# Altium footprint library eagle-ltspice.PCBLIB: 60 footprints (part 1 of 4)
Each footprint in its own frame and in the unit in brackets; x right, y up, seen from the top. Pads: shape width x height; smd on the part's side, far side on the other; paste and mask are expansions set on the pad; w line width, h text height; cw(c..) or ccw(c..) is an arc to the next point about the centre after c.
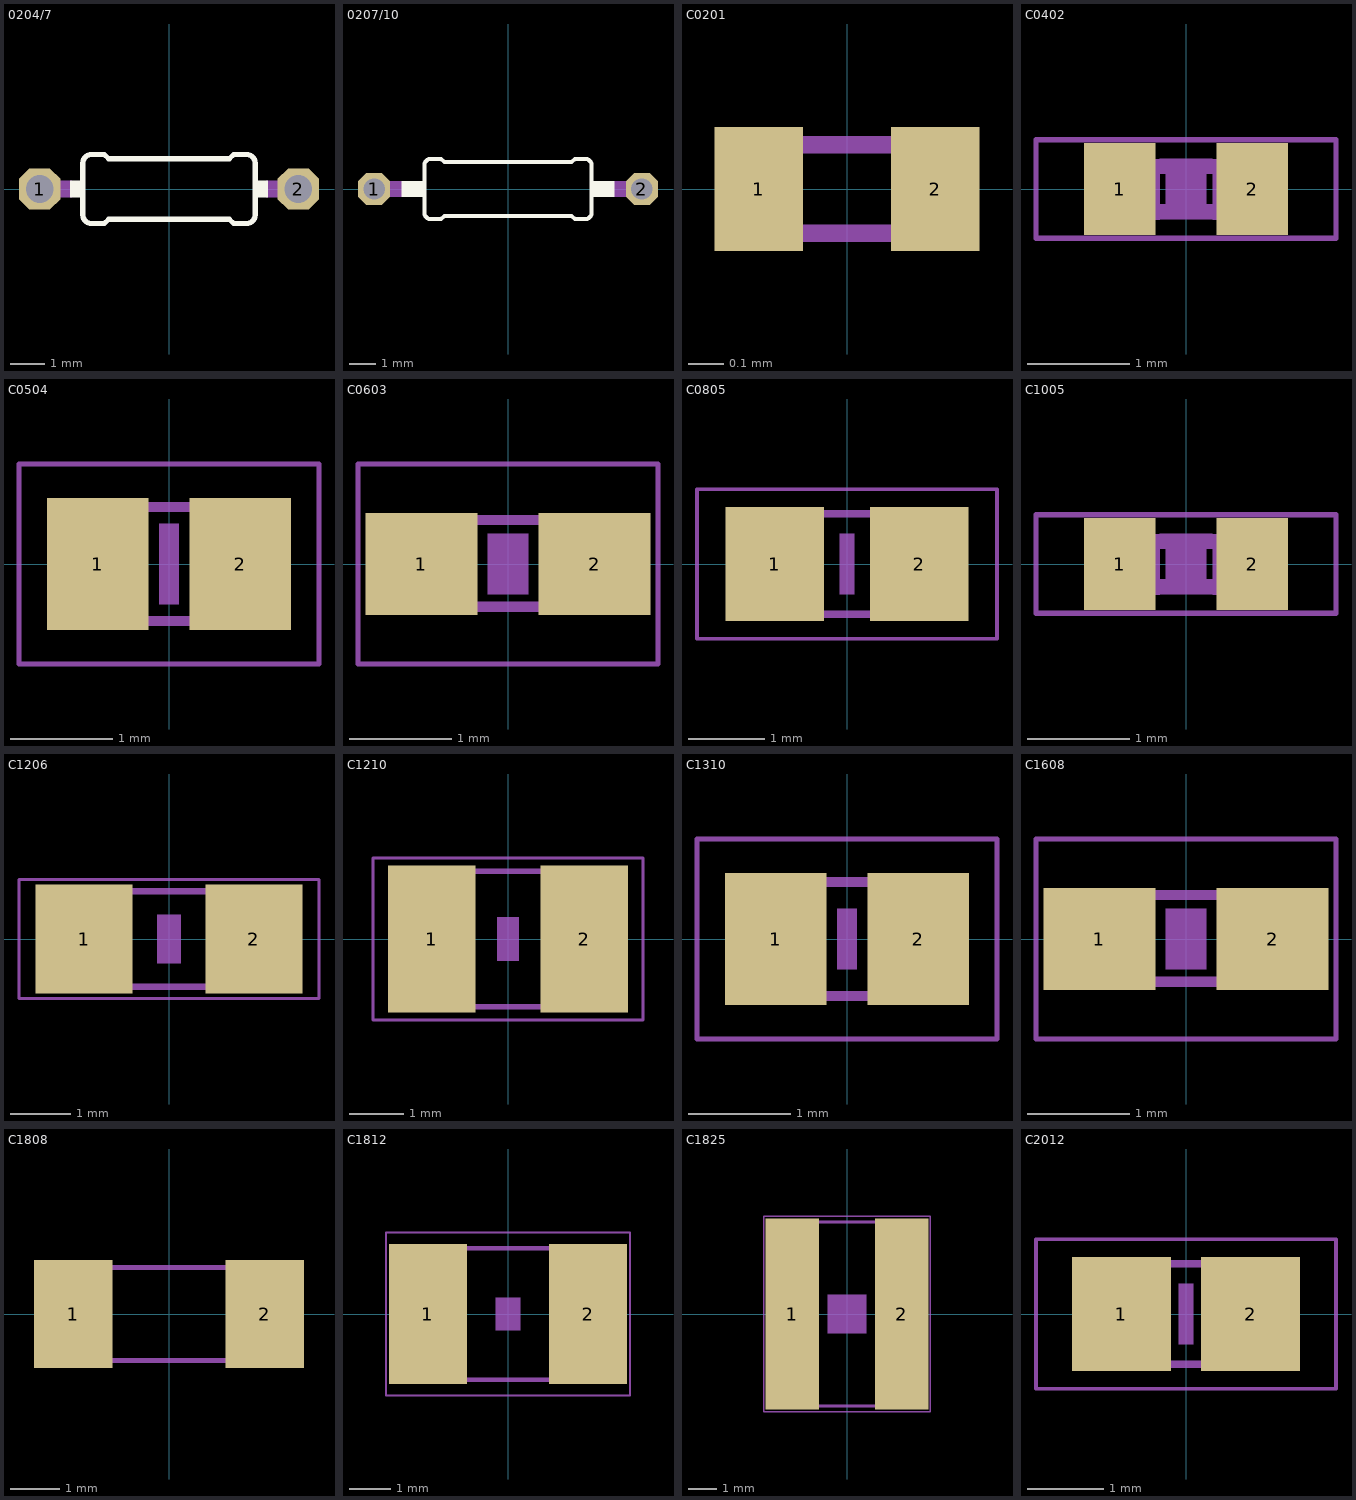
[diagram p0: the footprints below, top view; thin cyan lines are the x and y axes]

## 0204/7 [mil]
pads (2):
  oct 48x48 hole 32: 1(-150,0) 2(150,0)
Top Overlay:
  rectangle: 100,-10 115,10
  rectangle: -115,-10 -100,10
  lines w6: -100,-30 ccw(c-90,-30) -90,-40 -75,-40 -70,-35 70,-35 75,-40 90,-40 ccw(c90,-30) 100,-30 100,30 ccw(c90,30) 90,40 75,40 70,35 -70,35 -75,40 -90,40 ccw(c-90,30) -100,30 -100,-30
Mechanical 16:
  lines w20: -150,0 -115,0 ; 115,0 150,0

## 0207/10 [mil]
pads (2):
  oct 48x48 hole 32: 1(-200,0) 2(200,0)
Top Overlay:
  rectangle: 125,-12 159,12
  rectangle: -159,-12 -125,12
  lines w6: -125,-35 ccw(c-115,-35) -115,-45 -100,-45 -95,-40 95,-40 100,-45 115,-45 ccw(c115,-35) 125,-35 125,35 ccw(c115,35) 115,45 100,45 95,40 -95,40 -100,45 -115,45 ccw(c-115,35) -125,35 -125,-35
Mechanical 16:
  lines w24: -200,0 -160,0 ; 160,0 200,0

## C0201 [mm]
pads (2):
  rect 0.25x0.35 smd: 1(-0.25,0) 2(0.25,0)
Mechanical 16:
  rectangle: -0.3,-0.15 -0.15,0.15
  rectangle: 0.15,-0.15 0.3,0.15
  rectangle: -0.15,0.1 0.15,0.15
  rectangle: -0.15,-0.15 0.15,-0.1

## C0402 [mm]
pads (2):
  rect 0.7x0.9 smd: 1(-0.65,0) 2(0.65,0)
Mechanical 6:
  rectangle: -0.2,-0.3 0.2,0.3
Mechanical 16:
  rectangle: -0.554,-0.305 -0.254,0.295
  rectangle: 0.259,-0.305 0.559,0.295
  lines w0.152: -0.245,-0.224 0.245,-0.224 ; -0.245,0.224 0.245,0.224
Mechanical 27:
  lines w0.051: -1.473,-0.483 1.473,-0.483 1.473,0.483 -1.473,0.483 -1.473,-0.483

## C0504 [mm]
pads (2):
  rect 1x1.3 smd: 1(-0.7,0) 2(0.7,0)
Mechanical 6:
  rectangle: -0.1,-0.4 0.1,0.4
Mechanical 16:
  rectangle: -0.66,-0.622 -0.28,0.628
  rectangle: 0.279,-0.622 0.659,0.628
  lines w0.102: -0.294,-0.559 0.294,-0.559 ; -0.294,0.559 0.294,0.559
Mechanical 27:
  lines w0.051: -1.473,-0.983 1.473,-0.983 1.473,0.983 -1.473,0.983 -1.473,-0.983

## C0603 [mm]
pads (2):
  rect 1.1x1 smd: 1(-0.85,0) 2(0.85,0)
Mechanical 6:
  rectangle: -0.2,-0.3 0.2,0.3
Mechanical 16:
  rectangle: -0.838,-0.47 -0.338,0.48
  rectangle: 0.33,-0.47 0.83,0.48
  lines w0.102: -0.356,-0.419 0.356,-0.419 ; -0.356,0.432 0.356,0.432
Mechanical 27:
  lines w0.051: -1.473,-0.983 1.473,-0.983 1.473,0.983 -1.473,0.983 -1.473,-0.983

## C0805 [mm]
pads (2):
  rect 1.3x1.5 smd: 1(-0.95,0) 2(0.95,0)
Mechanical 6:
  rectangle: -0.1,-0.4 0.1,0.4
Mechanical 16:
  rectangle: -1.092,-0.724 -0.342,0.726
  rectangle: 0.356,-0.724 1.106,0.726
  lines w0.102: -0.381,0.66 0.381,0.66 ; -0.356,-0.66 0.381,-0.66
Mechanical 27:
  lines w0.051: -1.973,-0.983 1.973,-0.983 1.973,0.983 -1.973,0.983 -1.973,-0.983

## C1005 [mm]
pads (2):
  rect 0.7x0.9 smd: 1(-0.65,0) 2(0.65,0)
Mechanical 6:
  rectangle: -0.2,-0.3 0.2,0.3
Mechanical 16:
  rectangle: -0.554,-0.305 -0.254,0.295
  rectangle: 0.259,-0.305 0.559,0.295
  lines w0.152: -0.245,-0.224 0.245,-0.224 ; -0.245,0.224 0.245,0.224
Mechanical 27:
  lines w0.051: -1.473,-0.483 1.473,-0.483 1.473,0.483 -1.473,0.483 -1.473,-0.483

## C1206 [mm]
pads (2):
  rect 1.6x1.8 smd: 1(-1.4,0) 2(1.4,0)
Mechanical 6:
  rectangle: -0.2,-0.4 0.2,0.4
Mechanical 16:
  rectangle: -1.702,-0.851 -0.952,0.849
  rectangle: 0.952,-0.849 1.702,0.851
  lines w0.102: -0.965,-0.787 0.965,-0.787 ; -0.965,0.787 0.965,0.787
Mechanical 27:
  lines w0.051: -2.473,-0.983 2.473,-0.983 2.473,0.983 -2.473,0.983 -2.473,-0.983

## C1210 [mm]
pads (2):
  rect 1.6x2.7 smd: 1(-1.4,0) 2(1.4,0)
Mechanical 6:
  rectangle: -0.2,-0.4 0.2,0.4
Mechanical 16:
  rectangle: -1.702,-1.295 -0.952,1.305
  rectangle: 0.952,-1.305 1.702,1.295
  lines w0.102: -0.965,-1.245 0.965,-1.245 ; -0.965,1.245 0.965,1.245
Mechanical 27:
  lines w0.051: -2.473,-1.483 2.473,-1.483 2.473,1.483 -2.473,1.483 -2.473,-1.483

## C1310 [mm]
pads (2):
  rect 1x1.3 smd: 1(-0.7,0) 2(0.7,0)
Mechanical 6:
  rectangle: -0.1,-0.3 0.1,0.3
Mechanical 16:
  rectangle: -0.66,-0.622 -0.28,0.628
  rectangle: 0.279,-0.622 0.659,0.628
  lines w0.102: -0.294,-0.559 0.294,-0.559 ; -0.294,0.559 0.294,0.559
Mechanical 27:
  lines w0.051: -1.473,-0.983 1.473,-0.983 1.473,0.983 -1.473,0.983 -1.473,-0.983

## C1608 [mm]
pads (2):
  rect 1.1x1 smd: 1(-0.85,0) 2(0.85,0)
Mechanical 6:
  rectangle: -0.2,-0.3 0.2,0.3
Mechanical 16:
  rectangle: -0.838,-0.47 -0.338,0.48
  rectangle: 0.33,-0.47 0.83,0.48
  lines w0.102: -0.356,-0.419 0.356,-0.419 ; -0.356,0.432 0.356,0.432
Mechanical 27:
  lines w0.051: -1.473,-0.983 1.473,-0.983 1.473,0.983 -1.473,0.983 -1.473,-0.983

## C1808 [mm]
pads (2):
  rect 1.6x2.2 smd: 1(-1.95,0) 2(1.95,0)
Mechanical 16:
  rectangle: -2.275,-1.015 -1.225,1.015
  rectangle: 1.225,-1.015 2.275,1.015
  lines w0.102: -1.473,0.95 1.473,0.95 ; -1.448,-0.95 1.473,-0.95

## C1812 [mm]
pads (2):
  rect 1.9x3.4 smd: 1(-1.95,0) 2(1.95,0)
Mechanical 6:
  rectangle: -0.3,-0.4 0.3,0.4
Mechanical 16:
  rectangle: -2.388,-1.651 -1.438,1.649
  rectangle: 1.448,-1.651 2.398,1.649
  lines w0.102: -1.473,1.6 1.473,1.6 ; -1.448,-1.6 1.473,-1.6
Mechanical 27:
  lines w0.051: -2.973,-1.983 2.973,-1.983 2.973,1.983 -2.973,1.983 -2.973,-1.983

## C1825 [mm]
pads (2):
  rect 1.9x6.8 smd: 1(-1.95,0) 2(1.95,0)
Mechanical 6:
  rectangle: -0.7,-0.7 0.7,0.7
Mechanical 16:
  rectangle: -2.413,-3.353 -1.463,3.347
  rectangle: 1.448,-3.353 2.398,3.347
  lines w0.102: -1.499,3.277 1.473,3.277 ; -1.473,-3.277 1.499,-3.277
Mechanical 27:
  lines w0.051: -2.973,-3.483 2.973,-3.483 2.973,3.483 -2.973,3.483 -2.973,-3.483

## C2012 [mm]
pads (2):
  rect 1.3x1.5 smd: 1(-0.85,0) 2(0.85,0)
Mechanical 6:
  rectangle: -0.1,-0.4 0.1,0.4
Mechanical 16:
  rectangle: -1.092,-0.724 -0.342,0.726
  rectangle: 0.356,-0.724 1.106,0.726
  lines w0.102: -0.381,0.66 0.381,0.66 ; -0.356,-0.66 0.381,-0.66
Mechanical 27:
  lines w0.051: -1.973,-0.983 1.973,-0.983 1.973,0.983 -1.973,0.983 -1.973,-0.983